# Altium schematic symbol library Schlib1.SchLib: 8 symbols
Pins are listed as number, name and electrical type; pins without a type are passive.

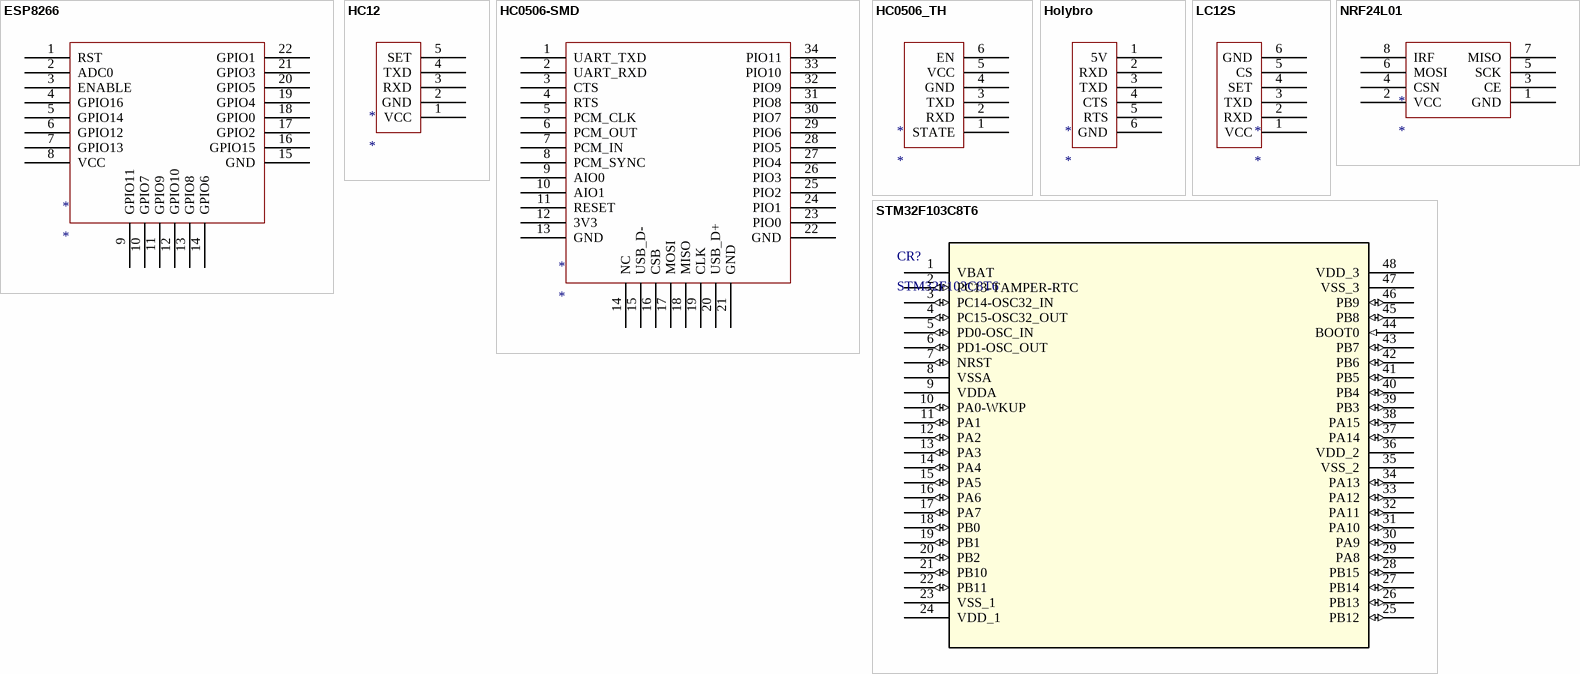
[diagram p0: symbols ESP8266 to STM32F103C8T6]

## ESP8266
designator *
footprint ESP8266
pins: 1 RST, 2 ADC0, 3 ENABLE, 4 GPIO16, 5 GPIO14, 6 GPIO12, 7 GPIO13, 8 VCC, 9 GPIO11, 10 GPIO7, 11 GPIO9, 12 GPIO10, 13 GPIO8, 14 GPIO6, 15 GND, 16 GPIO15, 17 GPIO2, 18 GPIO0, 19 GPIO4, 20 GPIO5, 21 GPIO3, 22 GPIO1

## HC12
designator *
footprint HC12
pins: 1 VCC, 2 GND, 3 RXD, 4 TXD, 5 SET

## HC0506-SMD
designator *
footprint HC0506-SMD
pins: 1 UART_TXD, 2 UART_RXD, 3 CTS, 4 RTS, 5 PCM_CLK, 6 PCM_OUT, 7 PCM_IN, 8 PCM_SYNC, 9 AIO0, 10 AIO1, 11 RESET, 12 3V3, 13 GND, 14 NC, 15 USB_D-, 16 CSB, 17 MOSI, 18 MISO, 19 CLK, 20 USB_D+, 21 GND, 22 GND, 23 PIO0, 24 PIO1, 25 PIO2, 26 PIO3, 27 PIO4, 28 PIO5, 29 PIO6, 30 PIO7, 31 PIO8, 32 PIO9, 33 PIO10, 34 PIO11

## HC0506_TH
designator *
pins: 1 STATE, 2 RXD, 3 TXD, 4 GND, 5 VCC, 6 EN

## Holybro
designator *
footprint Holybro
pins: 1 5V, 2 RXD, 3 TXD, 4 CTS, 5 RTS, 6 GND

## LC12S
designator *
Local Supplier: HShop; Local Supplier Link: https://hshop.vn/products/mach-thu-phat-rf-uart-lc12s-2-4ghz?fbclid=IwAR1M9YDa-GitOgYklxeG5eoXHMme_RQQZ19pTuO3FE9QmjSNk3aG2x454fg; Local Supplier Part Number: HS000895; Manufacturer: *; Manufacturer Part Number: *
footprint LC12S
pins: 1 VCC, 2 RXD, 3 TXD, 4 SET, 5 CS, 6 GND

## NRF24L01
designator *
footprint NRF24L01
pins: 1 GND, 2 VCC , 3 CE, 4 CSN, 5 SCK, 6 MOSI, 7 MISO, 8 IRF

## STM32F103C8T6
designator CR?
No Description Available; Vendor: STMicroelectronics; Built_By: EMA_UL_Team; Type: DEV; Manufacturer_Part_Number: STM32F103C8T6; Copyright: Copyright (C) 2018 Accelerated Designs. All rights reserved; RefDes: RefDes
footprint LQFP-48
pins: 1 VBAT (power), 2 PC13-TAMPER-RTC (io), 3 PC14-OSC32_IN (io), 4 PC15-OSC32_OUT (io), 5 PD0-OSC_IN (io), 6 PD1-OSC_OUT (io), 7 NRST (io), 8 VSSA (power), 9 VDDA (power), 10 PA0-WKUP (io), 11 PA1 (io), 12 PA2 (io), 13 PA3 (io), 14 PA4 (io), 15 PA5 (io), 16 PA6 (io), 17 PA7 (io), 18 PB0 (io), 19 PB1 (io), 20 PB2 (io), 21 PB10 (io), 22 PB11 (io), 23 VSS_1 (power), 24 VDD_1 (power), 25 PB12 (io), 26 PB13 (io), 27 PB14 (io), 28 PB15 (io), 29 PA8 (io), 30 PA9 (io), 31 PA10 (io), 32 PA11 (io), 33 PA12 (io), 34 PA13 (io), 35 VSS_2 (power), 36 VDD_2 (power), 37 PA14 (io), 38 PA15 (io), 39 PB3 (io), 40 PB4 (io), 41 PB5 (io), 42 PB6 (io), 43 PB7 (io), 44 BOOT0 (in), 45 PB8 (io), 46 PB9 (io), 47 VSS_3 (power), 48 VDD_3 (power)